# Altium schematic symbol library SIL03-1A72-71D.SchLib: 1 symbol
Pins are listed as number, name and electrical type; pins without a type are passive.

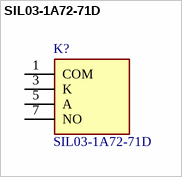
[diagram p0: symbol SIL03-1A72-71D]

## SIL03-1A72-71D
designator K?
Reed Relays Form A - NO 10 W, 200 V; Manufacturer_Name: Meder; Geometry.Height: 7.8mm; Manufacturer_Part_Number: SIL03-1A72-71D; Mouser Part Number: 876-SIL03-1A72-71D; Mouser Price/Stock: https://www.mouser.co.uk/ProductDetail/MEDER-electronic-Standex/SIL03-1A72-71D?qs=XQXp6f9AQWAyfFxxKRfX0Q%3D%3D; Arrow Part Number: *; Arrow Price/Stock: *; Datasheet Link: https://4a30d8fd18dae1bf393d-df49f4cedb726ad03ad145d2e3d346bd.ssl.cf5.rackcdn.com/datasheets/33/3303172171e.pdf
footprint SIL031A7271D
pins: 1 COM, 3 K, 5 A, 7 NO